# Altium schematic symbol library SCH - DRIVER - LED - TI TLC5960_DA_38.SchLib: 1 symbol
Pins are listed as number, name and electrical type; pins without a type are passive.

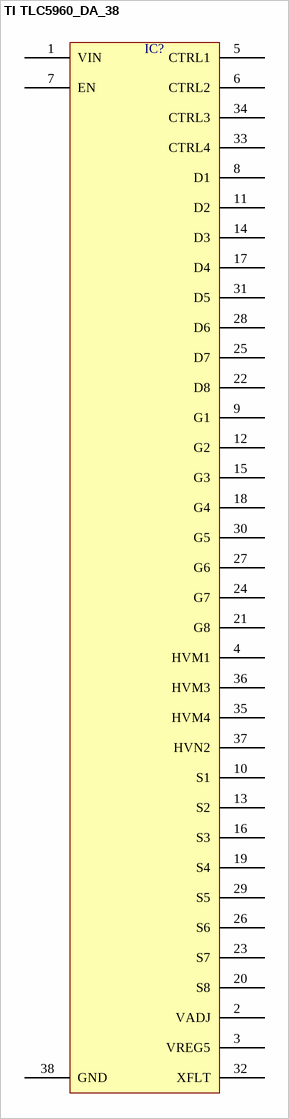
[diagram p0: symbol TI TLC5960_DA_38]

## TI TLC5960_DA_38
designator IC?  (value not drawn)
pins: 1 VIN, 2 VADJ, 3 VREG5, 4 HVM1, 5 CTRL1, 6 CTRL2, 7 EN, 8 D1, 9 G1, 10 S1, 11 D2, 12 G2, 13 S2, 14 D3, 15 G3, 16 S3, 17 D4, 18 G4, 19 S4, 20 S8, 21 G8, 22 D8, 23 S7, 24 G7, 25 D7, 26 S6, 27 G6, 28 D6, 29 S5, 30 G5, 31 D5, 32 XFLT, 33 CTRL4, 34 CTRL3, 35 HVM4, 36 HVM3, 37 HVN2, 38 GND